# EAGLE library part WE-RJ45_LAN_10/100_BASET_STD_LED (library Wuerth_Elektronik_eiSos_ v6.8)
WE-RJ45 LAN Transformer 10/100 BaseT with LED - RJ45 connector with integrated transformer common mode choke - 350 µH min.OCL with 8 mA bias - Complies with IEEE 802.3 - Extended temperature range from 0°C to +70°C available -- ADSL Modem -- Embedded PC -- LAN network applications -- Hub, Router, Switches
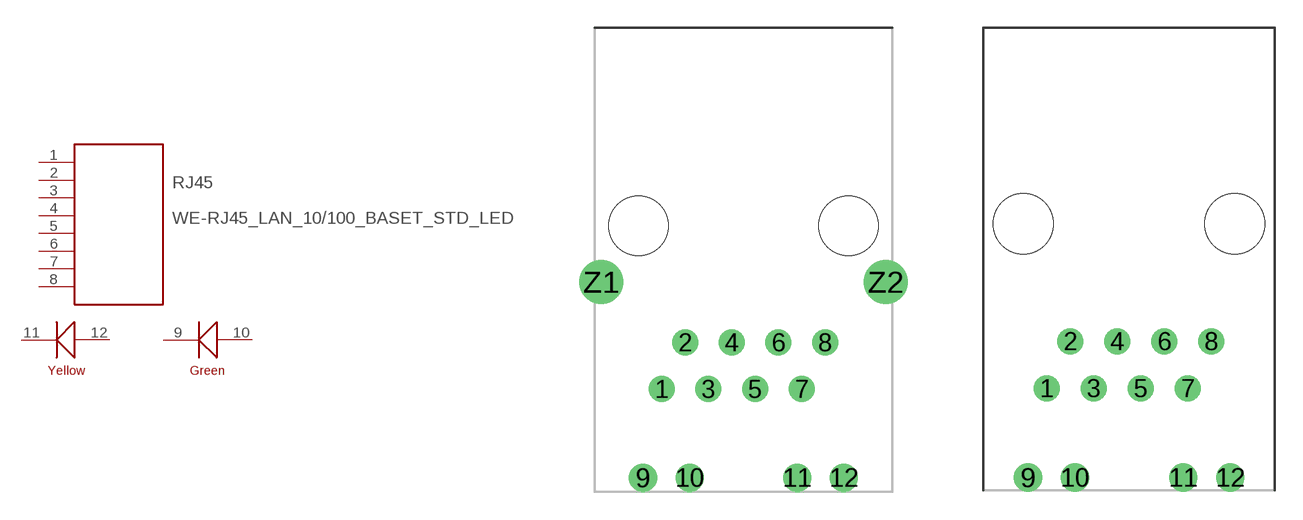
[diagram p91: symbol with the pads of WE-RJ45_LAN_10/100_BASET_7499010121; footprints WE-RJ45_LAN_10/100_BASET_7499010121, WE-RJ45_LAN_10/100_BASET_7499012121]

Designator prefix RJ45

## WE-RJ45_LAN_10/100_BASET_STD_LED_7499010121  [WE-RJ45_LAN_10/100_BASET_7499010121]
1  1  pas
2  2  pas
3  3  pas
4  4  pas
5  5  pas
6  6  pas
7  7  pas
8  8  pas
9  12  pas
10  11  pas
11  10  pas
12  9  pas

## WE-RJ45_LAN_10/100_BASET_STD_LED_7499012121  [WE-RJ45_LAN_10/100_BASET_7499012121]
Pads as for WE-RJ45_LAN_10/100_BASET_7499010121

## WE-RJ45_LAN_10/100_BASET_STD_LED_7499011121  [WE-RJ45_LAN_10/100_BASET_7499011121/2]
1  1  pas
2  2  pas
3  3  pas
4  4  pas
5  5  pas
6  6  pas
7  7  pas
8  8  pas
9  9  pas
10  10  pas
11  11  pas
12  12  pas

## WE-RJ45_LAN_10/100_BASET_STD_LED_7499011122  [WE-RJ45_LAN_10/100_BASET_7499011121/2]
Pads as for WE-RJ45_LAN_10/100_BASET_7499011121/2

## WE-RJ45_LAN_10/100_BASET_STD_LED_7499011211  [WE-RJ45_LAN_10/100_BASET_7499011211]
1  1  pas
2  2  pas
3  3  pas
4  4  pas
5  5  pas
6  6  pas
7  7  pas
8  8  pas
9  10  pas
10  9  pas
11  12  pas
12  11  pas

## WE-RJ45_LAN_10/100_BASET_STD_LED_7499011212  [WE-RJ45_LAN_10/100_BASET_7499011212]
1  1  pas
2  2  pas
3  3  pas
4  4  pas
5  5  pas
6  6  pas
7  7  pas
8  8  pas
9  11  pas
10  12  pas
11  10  pas
12  9  pas

## WE-RJ45_LAN_10/100_BASET_STD_LED_7499010211  [WE-RJ45_LAN_10/100_BASET_7499010211]
Pads as for WE-RJ45_LAN_10/100_BASET_7499011212

## WE-RJ45_LAN_10/100_BASET_STD_LED_7499010122  [WE-RJ45_LAN_10/100_BASET_7499010122]
Pads as for WE-RJ45_LAN_10/100_BASET_7499011121/2

## Footprint WE-RJ45_LAN_10/100_BASET_7499010121 (pad centres in mm)
WE-RJ45 LAN Transformer 10/100 BaseT with LED
drill 0.9 round: 1 -4.445,-8.89; 2 -3.175,-6.35; 3 -1.905,-8.89; 4 -0.635,-6.35; 5 0.635,-8.89; 6 1.905,-6.35; 7 3.175,-8.89; 8 4.445,-6.35
drill 1.02 round: 9 -5.465,-13.72; 10 -2.925,-13.72; 11 2.925,-13.72; 12 5.465,-13.72
drill 1.6 round: Z1 -7.745,-3.05; Z2 7.745,-3.05
hole 3.25 at 5.715,0
hole 3.25 at -5.715,0

## Footprint WE-RJ45_LAN_10/100_BASET_7499012121 (pad centres in mm)
WE-RJ45 LAN Transformer 10/100 BaseT with LED
drill 0.9 round: 1 -4.445,-8.89; 2 -3.175,-6.35; 3 -1.905,-8.89; 4 -0.635,-6.35; 5 0.635,-8.89; 6 1.905,-6.35; 7 3.175,-8.89; 8 4.445,-6.35
drill 1.02 round: 9 -5.465,-13.72; 10 -2.925,-13.72; 11 2.925,-13.72; 12 5.465,-13.72
hole 3.25 at 5.715,0
hole 3.25 at -5.715,0

## Footprint WE-RJ45_LAN_10/100_BASET_7499011121/2 (pad centres in mm)
WE-RJ45 LAN Transformer 10/100 BaseT with LED
drill 0.9 round: 1 4.445,-6.35; 2 3.175,-8.89; 3 1.905,-6.35; 4 0.635,-8.89; 5 -0.635,-6.35; 6 -1.905,-8.89; 7 -3.175,-6.35; 8 -4.445,-8.89
drill 1.02 round: 9 6.63,4.06; 10 4.09,4.06; 11 -4.09,4.06; 12 -6.63,4.06
hole 3.25 at 5.715,0
hole 3.25 at -5.715,0
hole 1.6 at 7.745,-3.05
hole 1.6 at -7.745,-3.05

## Footprint WE-RJ45_LAN_10/100_BASET_7499011211 (pad centres in mm)
WE-RJ45 LAN Transformer 10/100 BaseT with LED
drill 0.9 round: 1 -4.445,-8.89; 2 -3.175,-6.35; 3 -1.905,-8.89; 4 -0.635,-6.35; 5 0.635,-8.89; 6 1.905,-6.35; 7 3.175,-8.89; 8 4.445,-6.35
drill 1.02 round: 9 -5.465,-13.72; 10 -2.925,-13.72; 11 2.925,-13.72; 12 5.465,-13.72
drill 1.6 round: Z1 -7.745,-3.05; Z2 7.745,-3.05
hole 3.25 at 5.715,0
hole 3.25 at -5.715,0

## Footprint WE-RJ45_LAN_10/100_BASET_7499011212 (pad centres in mm)
WE-RJ45 LAN Transformer 10/100 BaseT with LED
drill 0.9 round: 1 4.445,-6.35; 2 3.175,-8.89; 3 1.905,-6.35; 4 0.635,-8.89; 5 -0.635,-6.35; 6 -1.905,-8.89; 7 -3.175,-6.35; 8 -4.445,-8.89
drill 1.02 round: 9 6.325,4.9; 10 3.785,3.38; 11 -3.785,4.9; 12 -6.325,3.38
drill 1.6 round: Z1 -7.875,-3.05; Z2 7.875,-3.05
hole 3.25 at 5.715,0
hole 3.25 at -5.715,0

## Footprint WE-RJ45_LAN_10/100_BASET_7499010211 (pad centres in mm)
WE-RJ45 LAN Transformer 10/100 BaseT with LED
drill 0.9 round: 1 4.445,-6.35; 2 3.175,-8.89; 3 1.905,-6.35; 4 0.635,-8.89; 5 -0.635,-6.35; 6 -1.905,-8.89; 7 -3.175,-6.35; 8 -4.445,-8.89
drill 1.02 round: 9 6.325,4.9; 10 3.785,3.38; 11 -3.785,4.9; 12 -6.325,3.38
hole 3.25 at 5.715,0
hole 3.25 at -5.715,0
hole 1.6 at 7.875,-3.05
hole 1.6 at -7.875,-3.05

## Footprint WE-RJ45_LAN_10/100_BASET_7499010122 (pad centres in mm)
WE-RJ45 LAN Transformer 10/100 BaseT, vertical with LED
drill 0.9 round: 1 4.445,-6.35; 2 3.175,-8.89; 3 1.905,-6.35; 4 0.635,-8.89; 5 -0.635,-6.35; 6 -1.905,-8.89; 7 -3.175,-6.35; 8 -4.445,-8.89
drill 1.02 round: 9 6.63,4.06; 10 4.09,4.06; 11 -4.09,4.06; 12 -6.63,4.06
drill 1.6 round: Z1 -7.745,-3.05; Z2 7.745,-3.05
hole 3.25 at 5.715,0
hole 3.25 at -5.715,0